# EAGLE library part HI5767/2CBZ (library iklbr)
Intersil HI5767 10-Bit, 20/40/60MSPS A/D Converter with Internal Voltage Reference
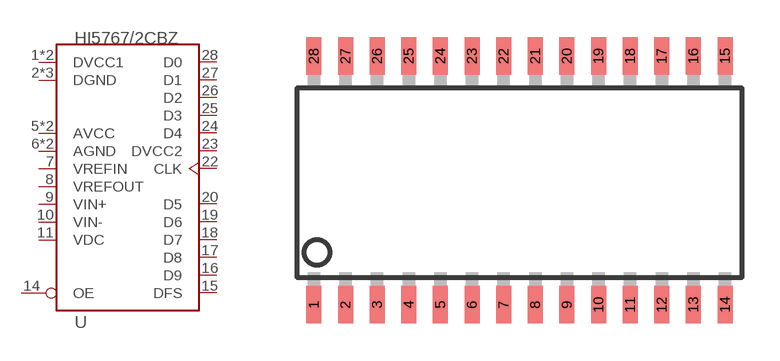
[diagram p0: symbol with the pads of SOIC-28; footprint SOIC-28]

Designator prefix -

## HI5767/2CBZ (HI5767: 2CBZ)  [SOIC-28]
1  DVCC1  pwr
2  DGND  pwr
3  DVCC1  pwr
4  DGND  pwr
5  AVCC  pwr
6  AGND  pwr
7  VREFIN  in
8  VREFOUT  out
9  VIN+  in
10  VIN-  in
11  VDC  out
12  AGND  pwr
13  AVCC  pwr
14  OE  in
15  DFS  hiz
16  D9  hiz
17  D8  hiz
18  D7  hiz
19  D6  hiz
20  D5  hiz
21  DGND  pwr
22  CLK  in
23  DVCC2  pwr
24  D4  hiz
25  D3  hiz
26  D2  hiz
27  D1  hiz
28  D0  hiz

## Footprint SOIC-28 (pad centres in mm)
smd 0.6 x 1.5: 1 -5.715,-5; 2 -4.445,-5; 3 -3.175,-5; 4 -1.905,-5; 5 -0.635,-5; 6 0.635,-5; 7 1.905,-5; 8 3.175,-5; 9 4.445,-5; 10 5.715,-5; 11 6.985,-5; 12 8.255,-5; 13 9.525,-5; 14 10.795,-5; 15 10.795,5; 16 9.525,5; 17 8.255,5; 18 6.985,5; 19 5.715,5; 20 4.445,5; 21 3.175,5; 22 1.905,5; 23 0.635,5; 24 -0.635,5; 25 -1.905,5; 26 -3.175,5; 27 -4.445,5; 28 -5.715,5